# EAGLE library part AE-NJU72501 (library ae-nju72501)
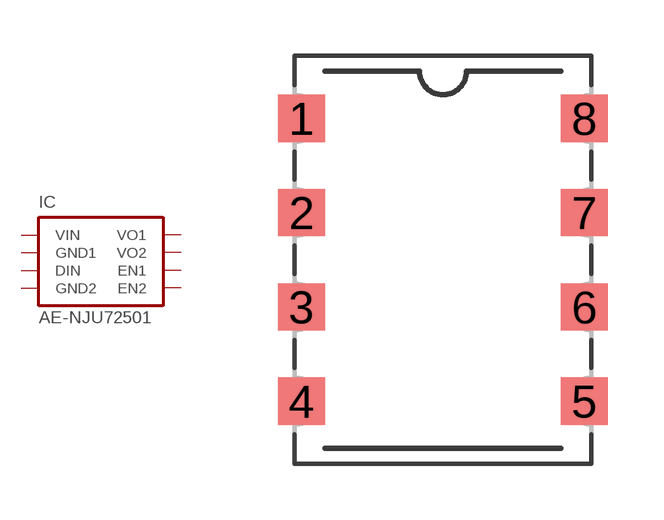
[diagram p0: symbol with the pads of AE-NJU72501; footprint AE-NJU72501]

Designator prefix IC

## AE-NJU72501  [AE-NJU72501]
1  VIN  pwr
2  GND1  pwr
3  DIN
4  GND2  pwr
5  EN2  pwr
6  EN1
7  VO2
8  VO1

## Footprint AE-NJU72501 (pad centres in mm)
smd 1.27 x 1.27: 1 -3.81,3.81; 2 -3.81,1.27; 3 -3.81,-1.27; 4 -3.81,-3.81; 5 3.81,-3.81; 6 3.81,-1.27; 7 3.81,1.27; 8 3.81,3.81